# EAGLE library part IR-MOSFETS_IRF3805STRL-7PP (library power.lbrpower)
N-Channel Max Voltage: 55V Continuous Current: 240A Power Dissapation: 300 Watt On Resistance: 2.6 mOhms Fall Time: 52 ns Footprint: D2PAK Turn-Off Delay: 80 ns
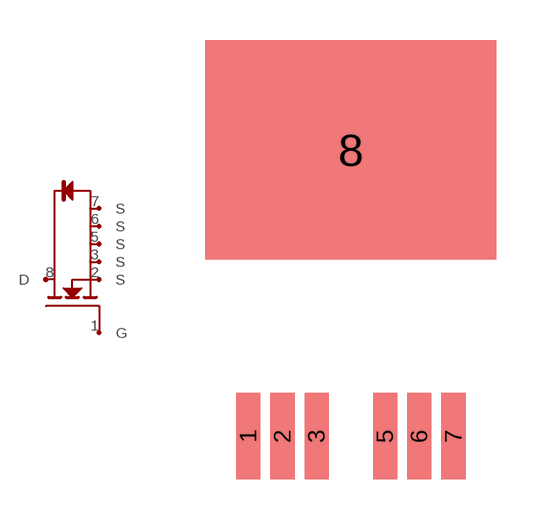
[diagram p0: symbol with the pads of IR-MOSFETS_D2PAK-7; footprint IR-MOSFETS_D2PAK-7]

Designator prefix -

## IR-MOSFETS_IRF3805STRL-7PP  [IR-MOSFETS_D2PAK-7]
1  G
2  S
3  S
5  S
6  S
7  S
8  D

## Footprint IR-MOSFETS_D2PAK-7 (pad centres in mm)
N-Channel Max Voltage: 55V Continuous Current: 240A Power Dissapation: 300 Watt On Resistance: 2.6 mOhms Fall Time: 52 ns Footprint: D2PAK Turn-Off Delay: 80 ns
smd 0.9 x 3.2: 1 -3.81,0; 2 -2.54,0; 3 -1.27,0; 5 1.27,0; 6 2.54,0; 7 3.81,0
smd 10.8 x 8.15: 8 0,10.625